# Altium footprint library MTHNP126MIL.PcbLib: 1 footprints
Each footprint in its own frame and in the unit in brackets; x right, y up, seen from the top. Pads: shape width x height; smd on the part's side, far side on the other; paste and mask are expansions set on the pad; w line width, h text height; cw(c..) or ccw(c..) is an arc to the next point about the centre after c.
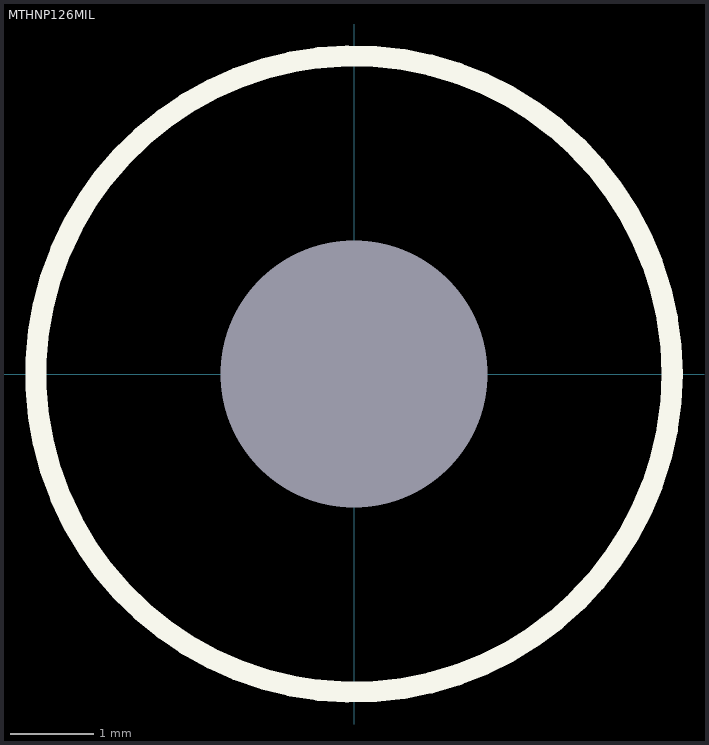
[diagram p0: the footprint, top view; thin cyan lines are the x and y axes]

## MTHNP126MIL [mil] "Mounting Hole Non-plated 126mil with 300mil Standoff"
pads (1):
  round 100 hole 126 unplated: ""(0,0)
Top Overlay:
  circle w10: c0,0 r150